# EAGLE library part CAN (library psu_board)
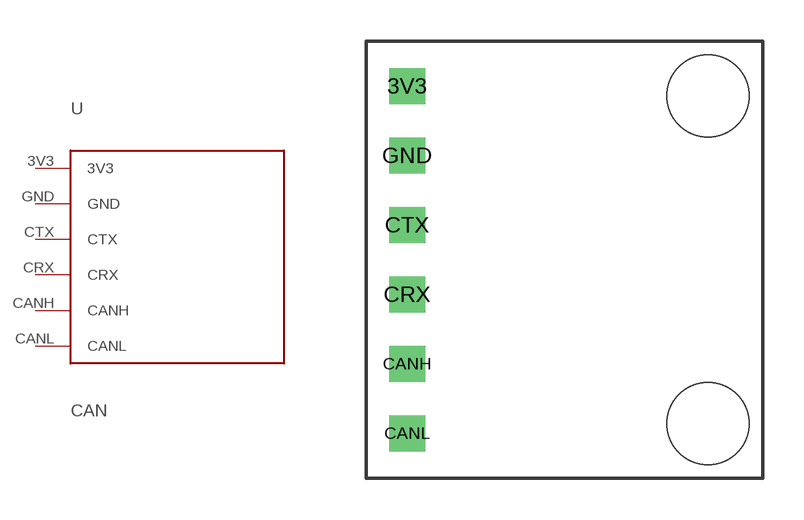
[diagram p1: symbol with the pads of CAN; footprint CAN]

Designator prefix -

## CAN  [CAN]
3V3  3V3
CANH  CANH
CANL  CANL
CRX  CRX
CTX  CTX
GND  GND

## Footprint CAN (pad centres in mm)
drill 0.8 square: 3V3 -5.75,6.35; CANH -5.75,-3.81; CANL -5.75,-6.35; CRX -5.75,-1.27; CTX -5.75,1.27; GND -5.75,3.81
hole 3 at 5.25,6
hole 3 at 5.25,-6